# Altium footprint library Header-2.54mm-2X3-M-V.PcbLib: 1 footprints
Each footprint in its own frame and in the unit in brackets; x right, y up, seen from the top. Pads: shape width x height; smd on the part's side, far side on the other; paste and mask are expansions set on the pad; w line width, h text height; cw(c..) or ccw(c..) is an arc to the next point about the centre after c.
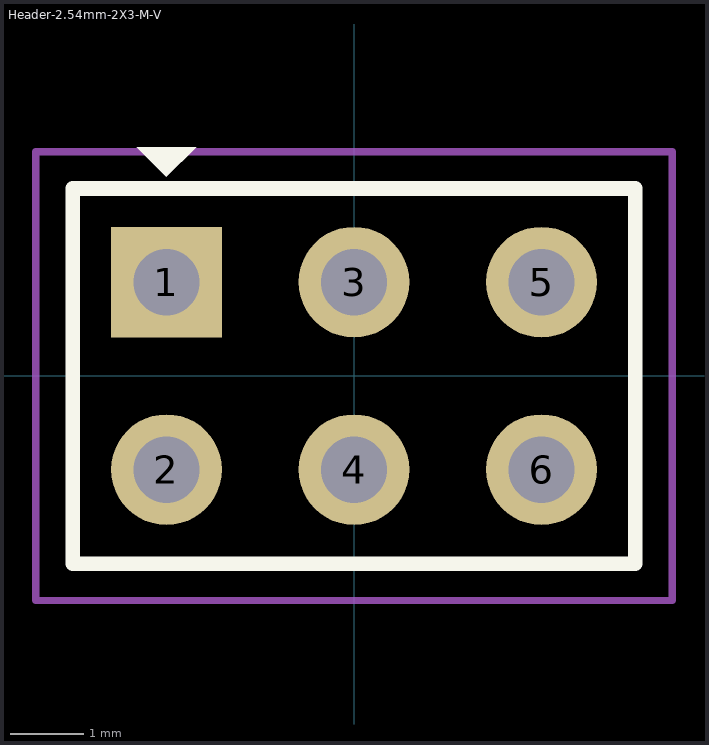
[diagram p0: the footprint, top view; thin cyan lines are the x and y axes]

## Header-2.54mm-2X3-M-V [mm]
pads (6):
  rect 1.5x1.5 hole 0.9: 1(-2.54,1.27)
  round 1.5 hole 0.9: 2(-2.54,-1.27) 3(0,1.27) 4(0,-1.27) 5(2.54,1.27) 6(2.54,-1.27)
Top Overlay:
  region: -2.94,3.095 -2.14,3.095 -2.54,2.695
  lines w0.2: -3.81,-2.543 3.81,-2.543 3.81,2.537 -3.81,2.537 -3.81,-2.543
Top Courtyard:
  lines w0.1: -4.31,-3.043 -3.81,-3.043 4.31,-3.043 4.31,3.037 -4.31,3.037 -4.31,-3.043
3D body "Pin Header Male 01x01 P2.54mm.stp": height 8.34, standoff -3.05, extent 1.27,-0.002 3.81,2.538
3D body: height 3, standoff 0, extent 1.803,0.533 3.277,2.007
3D body "Pin Header Male 01x01 P2.54mm.stp": height 8.34, standoff -3.05, extent 1.27,-2.542 3.81,-0.002
3D body: height 3, standoff 0, extent 1.803,-2.007 3.277,-0.533
3D body "Pin Header Male 01x01 P2.54mm.stp": height 8.34, standoff -3.05, extent -3.81,-0.002 -1.27,2.538
3D body "Pin Header Male 01x01 P2.54mm.stp": height 8.34, standoff -3.05, extent -1.27,-0.002 1.27,2.538
3D body: height 3, standoff 0, extent -0.737,0.533 0.737,2.007
3D body: height 3, standoff 0, extent -3.277,0.533 -1.803,2.007
3D body "Pin Header Male 01x01 P2.54mm.stp": height 8.34, standoff -3.05, extent -3.81,-2.542 -1.27,-0.002
3D body "Pin Header Male 01x01 P2.54mm.stp": height 8.34, standoff -3.05, extent -1.27,-2.542 1.27,-0.002
3D body: height 3, standoff 0, extent -0.737,-2.007 0.737,-0.533
3D body: height 3, standoff 0, extent -3.277,-2.007 -1.803,-0.533